# Altium schematic symbol library 1792016.SchLib: 1 symbol
Pins are listed as number, name and electrical type; pins without a type are passive.

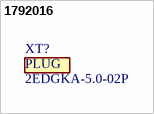
[diagram p0: symbol 1792016]

## 1792016
designator XT?, comment 2EDGKA-5.0-02P
2 Position Terminal Block Plug; MF: TE Connectivity; MP: 284506-2; SnapEDA_Link: https://www.snapeda.com/parts/284506-2/TE+Connectivity+AMP+Connectors/view-part/?ref=snap; Package: None; Value: *; EU_RoHS_Compliance: Compliant with Exemptions; Check_prices: https://www.snapeda.com/parts/284506-2/TE+Connectivity+AMP+Connectors/view-part/?ref=eda
footprint PHOENIX_1792016 (Footprint not found)
text: PLUG